# Altium footprint library DLW31S_1206.PcbLib: 1 footprints
Each footprint in its own frame and in the unit in brackets; x right, y up, seen from the top. Pads: shape width x height; smd on the part's side, far side on the other; paste and mask are expansions set on the pad; w line width, h text height; cw(c..) or ccw(c..) is an arc to the next point about the centre after c.
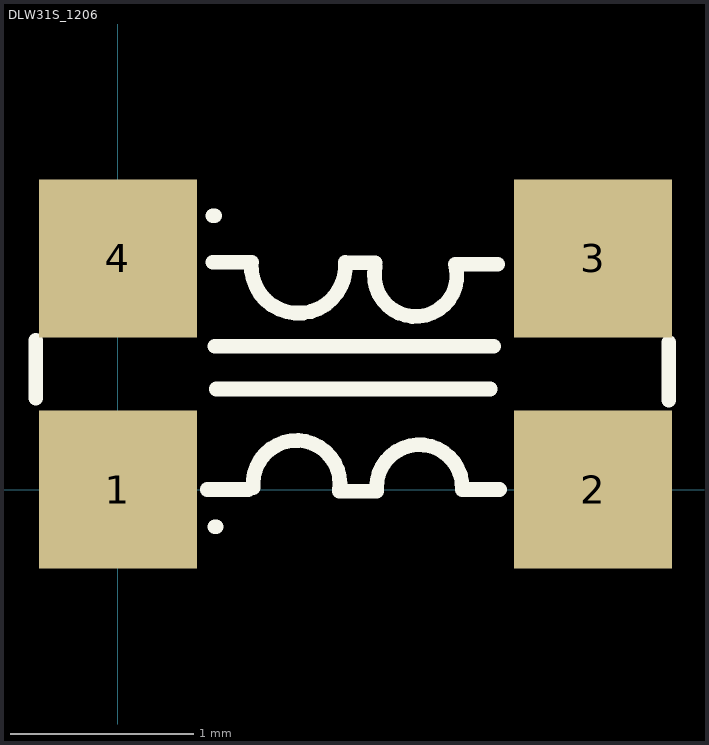
[diagram p0: the footprint, top view; thin cyan lines are the x and y axes]

## DLW31S_1206 [mm]
height 1.9
pads (4):
  rect 0.864x0.864 smd: 1(0,0) 2(2.6,0) 3(2.6,1.264) 4(0,1.264)
TopOverlay:
  lines w0.08: -0.449,0.499 -0.449,0.815 ; 0.488,0 0.712,0 ; 0.519,1.243 0.733,1.243 ; 0.519,1.497 0.529,1.497 ; 0.529,-0.204 0.539,-0.204 ; 0.529,0.784 2.057,0.784 ; 0.539,0.55 2.036,0.55 ; 0.73,1.238 ccw(c0.987,1.223) 1.244,1.244 ; 0.74,0.009 cw(c0.977,0.031) 1.211,-0.01 1.415,-0.01 ; 1.25,1.241 1.407,1.241 ; 1.408,1.218 ccw(c1.629,1.171) 1.849,1.22 ; 1.415,0.01 cw(c1.649,0.01) 1.883,0 2.087,0 ; 1.846,1.233 2.077,1.233 ; 3.014,0.489 3.014,0.805
3D body: height 1.9, standoff 0, extent -0.489,-0.244 3.054,1.537